# Altium footprint library d203.PcbLib: 102 footprints (part 7 of 7)
Each footprint in its own frame and in the unit in brackets; x right, y up, seen from the top. Pads: shape width x height; smd on the part's side, far side on the other; paste and mask are expansions set on the pad; w line width, h text height; cw(c..) or ccw(c..) is an arc to the next point about the centre after c.
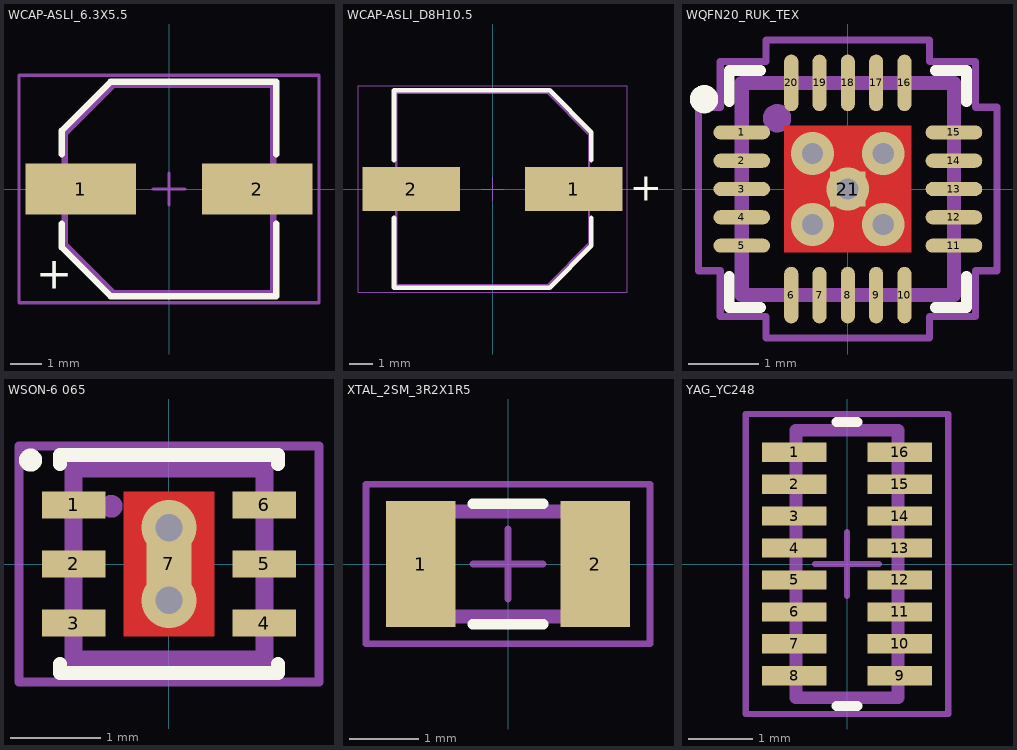
[diagram p6: the footprints below, top view; thin cyan lines are the x and y axes]

## WCAP-ASLI_6.3X5.5 [mm]
pads (2):
  rect 3.5x1.6 smd: 1(-2.8,0) 2(2.8,0)
Top Overlay:
  lines w0.2: -3.4,-1.1 -3.4,-1.85 -1.85,-3.4 3.4,-3.4 3.4,-1.1 ; -3.4,1.1 -3.4,1.85 -1.85,3.4 3.4,3.4 3.4,1.1
  text "+" at -3.048,-2.286 h1.02
Mechanical 14:
  lines w0.2: -3.3,-1.75 -3.3,1.75 -1.75,3.3 3.3,3.3 3.3,-3.3 -1.75,-3.3 -3.3,-1.75
  text "+" at -2.159,0.508 h1.02
  text "'.Designator'" at 0.635,0.254 h0.5
Mechanical 15:
  lines w0.1: -0.5,0 0.5,0 ; 0,-0.5 0,0.5 ; -4.75,-3.6 4.75,-3.6 4.75,3.6 -4.75,3.6 -4.75,-3.6
3D body "6.3x5.5x2.2.stp": height 5.5, standoff 0, extent -3.65,-3.3 3.65,3.3

## WCAP-ASLI_D8H10.5 [mm] "Aluminium Electrolytic V-Chip SMT Capacitors, 8x10.5mm"
height 10.5
pads (2):
  rect 4.2x1.9 smd: 1(3.5,0) 2(-3.5,0)
Top Overlay:
  lines w0.2: -4.25,-1.25 -4.25,-4.25 2.45,-4.25 4.25,-2.45 4.25,-1.25 ; -4.25,1.25 -4.25,4.25 2.45,4.25 4.25,2.45 4.25,1.25
  text "+" at 5.9,-0.5 h1.22
Mechanical 11:
  lines w0.1: -4.15,-4.15 2.35,-4.15 4.15,-2.35 4.15,2.35 2.35,4.15 -4.15,4.15 -4.15,-4.15
  text ".Designator" at -2.5,-0.75 h1.5
Mechanical 15:
  lines w0.05: -0.5,0 0.5,0 ; 0,-0.5 0,0.5 ; -5.8,-4.45 -5.8,4.45 5.8,4.45 5.8,-4.45 -5.8,-4.45
3D body "8x10.5x3.1.stp": height 10.5, standoff 0, extent -4.5,-4.15 4.5,4.15

## WQFN20_RUK_TEX [mm]
pads (21):
  rrect100% 0.8x0.2 smd mask+0.05: 1(-1.5,0.8) 2(-1.5,0.4) 3(-1.5,0) 4(-1.5,-0.4) 5(-1.5,-0.8) 11(1.5,-0.8) 12(1.5,-0.4) 13(1.5,0) 14(1.5,0.4) 15(1.5,0.8)
  rrect100% 0.2x0.8 smd mask+0.05: 6(-0.8,-1.5) 7(-0.4,-1.5) 8(0,-1.5) 9(0.4,-1.5) 10(0.8,-1.5) 16(0.8,1.5) 17(0.4,1.5) 18(0,1.5) 19(-0.4,1.5) 20(-0.8,1.5)
  rect 0.5x0.5 smd paste-2 mask+0.05: 21(0,0)
via 0.5,-0.5 diameter 0.605 hole 0.3
via -0.5,-0.5 diameter 0.605 hole 0.3
via 0.5,0.5 diameter 0.605 hole 0.3
via -0.5,0.5 diameter 0.605 hole 0.3
via 0,0 diameter 0.605 hole 0.3
Top Layer:
  rectangle: -0.9,-0.9 0.9,0.9
Top Overlay:
  circle w0.2: c-2.032,1.27 r0.1
  lines w0.152: -1.676,-1.234 -1.676,-1.676 -1.234,-1.676 ; -1.676,1.234 -1.676,1.676 -1.234,1.676 ; 1.234,-1.676 1.676,-1.676 1.676,-1.234 ; 1.234,1.676 1.676,1.676 1.676,1.234
Top Paste:
  region: 0.15,0.85 0.15,0.15 0.85,0.15 0.85,0.85
  region: 0.85,-0.15 0.15,-0.15 0.15,-0.85 0.85,-0.85
  region: -0.15,-0.85 -0.15,-0.15 -0.85,-0.15 -0.85,-0.85
  rectangle: -0.85,0.15 -0.15,0.85
Top Solder:
  rectangle: -0.95,-0.95 0.95,0.95
Mechanical 14:
  circle w0.2: c-1,1 r0.1
  lines w0.2: -1.5,-1.5 -1.5,1.5 1.5,1.5 1.5,-1.5 -1.5,-1.5
  text "'.Designator'" at 0.889,0.127 h0.5
Mechanical 15:
  lines w0.1: -0.5,0 0.5,0 ; 0,-0.5 0,0.5 ; -2.108,-1.156 -2.108,1.156 -1.803,1.156 -1.803,1.803 -1.156,1.803 -1.156,2.108 1.156,2.108 1.156,1.803 1.803,1.803 1.803,1.156 2.108,1.156 2.108,-1.156 1.803,-1.156 1.803,-1.803 1.156,-1.803 1.156,-2.108 -1.156,-2.108 -1.156,-1.803 -1.803,-1.803 -1.803,-1.156 -2.108,-1.156
3D body "RUK0020B.stp": height 0.8, standoff 0, extent -1.5,-1.5 1.5,1.5

## WSON-6 065 [mm]
pads (7):
  rect 0.7x0.3 smd mask+0.05: 1(-1.05,0.65) 2(-1.05,0) 3(-1.05,-0.65) 4(1.05,-0.65) 5(1.05,0) 6(1.05,0.65)
  rect 0.5x0.5 smd mask+0.05: 7(0,0)
via 0,-0.4 diameter 0.605 hole 0.3
via 0,0.4 diameter 0.605 hole 0.3
Top Layer:
  rectangle: -0.5,-0.8 0.5,0.8
Top Overlay:
  circle w0.152: c-1.524,1.143 r0.051
  lines w0.152: -1.2,-1.1 -1.2,-1.2 1.2,-1.2 1.2,-1.1 ; -1.2,1.1 -1.2,1.2 1.2,1.2 1.2,1.1
Top Paste:
  rectangle: -0.5,-0.8 0.5,0.8
Top Solder:
  rectangle: -0.55,-0.85 0.55,0.85
Mechanical 14:
  circle w0.15: c-0.635,0.635 r0.05
  lines w0.2: -1.05,-1.05 1.05,-1.05 1.05,1.05 -1.05,1.05 -1.05,-1.05
  text "'.Designator'" at -0.635,-0.254 h0.5
Mechanical 15:
  lines w0.1: -0.4,0 0.4,0 ; 0,-0.4 0,0.4 ; -1.651,-1.3 -1.651,1.3 1.651,1.3 1.651,-1.3 -1.651,-1.3
3D body "WSON-6.STEP": height 0.8, standoff 0, extent -1.05,-1.05 1.05,1.05

## XTAL_2SM_3R2X1R5 [mm]
pads (2):
  rect 1x1.8 smd: 1(-1.25,0) 2(1.25,0)
Top Overlay:
  lines w0.152: -0.508,-0.864 0.508,-0.864 ; -0.508,0.864 0.508,0.864
Mechanical 14:
  lines w0.2: -1.6,-0.75 1.6,-0.75 1.6,0.75 -1.6,0.75 -1.6,-0.75
  text ".Designator" at -1.1,-0.2 h0.5
Mechanical 15:
  lines w0.1: -0.5,0 0.5,0 ; 0,-0.5 0,0.5 ; -2.032,-1.143 2.032,-1.143 2.032,1.143 -2.032,1.143 -2.032,-1.143
3D body: height 0.8, standoff 0, extent -1.6,-0.75 1.6,0.75

## YAG_YC248 [mm]
pads (16):
  rect 1.016x0.3 smd: 1(-0.826,1.75) 2(-0.826,1.25) 3(-0.826,0.75) 4(-0.826,0.25) 5(-0.826,-0.25) 6(-0.826,-0.75) 7(-0.826,-1.25) 8(-0.826,-1.75) 9(0.826,-1.75) 10(0.826,-1.25) 11(0.826,-0.75) 12(0.826,-0.25) 13(0.826,0.25) 14(0.826,0.75) 15(0.826,1.25) 16(0.826,1.75)
Top Overlay:
  lines w0.152: -0.163,-2.222 0.163,-2.222 ; -0.163,2.222 0.163,2.222
Mechanical 13:
  lines w0: -0.8,-1.572 ccw(c-0.8,-1.5) -0.8,-1.428 ; -0.8,-1.072 ccw(c-0.8,-1) -0.8,-0.928 ; -0.8,-0.572 ccw(c-0.8,-0.5) -0.8,-0.428 ; -0.8,-0.072 ccw(c-0.8,0) -0.8,0.072 ; -0.8,0.428 ccw(c-0.8,0.5) -0.8,0.572 ; -0.8,0.928 ccw(c-0.8,1) -0.8,1.072 ; -0.8,1.428 ccw(c-0.8,1.5) -0.8,1.572 ; 0.8,-1.572 cw(c0.8,-1.5) 0.8,-1.428 ; 0.8,-1.072 cw(c0.8,-1) 0.8,-0.928 ; 0.8,-0.572 cw(c0.8,-0.5) 0.8,-0.428 ; 0.8,-0.072 cw(c0.8,0) 0.8,0.072 ; 0.8,0.428 cw(c0.8,0.5) 0.8,0.572 ; 0.8,0.928 cw(c0.8,1) 0.8,1.072 ; 0.8,1.428 cw(c0.8,1.5) 0.8,1.572
Mechanical 14:
  lines w0.2: -0.8,-2.096 0.8,-2.096 0.8,2.096 -0.8,2.096 -0.8,-2.096
  text "'.Designator'" at 0.127,-1.016 h0.5
Mechanical 15:
  lines w0.1: -0.5,0 0.5,0 ; 0,-0.5 0,0.5 ; -1.587,-2.349 1.587,-2.349 1.587,2.349 -1.587,2.349 -1.587,-2.349
3D body "YAG_YC248.step": height 0.56, standoff 0, extent -0.8,-2.096 0.8,2.096